# Altium footprint library SODFL3718X102N.PcbLib: 1 footprints
Each footprint in its own frame and in the unit in brackets; x right, y up, seen from the top. Pads: shape width x height; smd on the part's side, far side on the other; paste and mask are expansions set on the pad; w line width, h text height; cw(c..) or ccw(c..) is an arc to the next point about the centre after c.
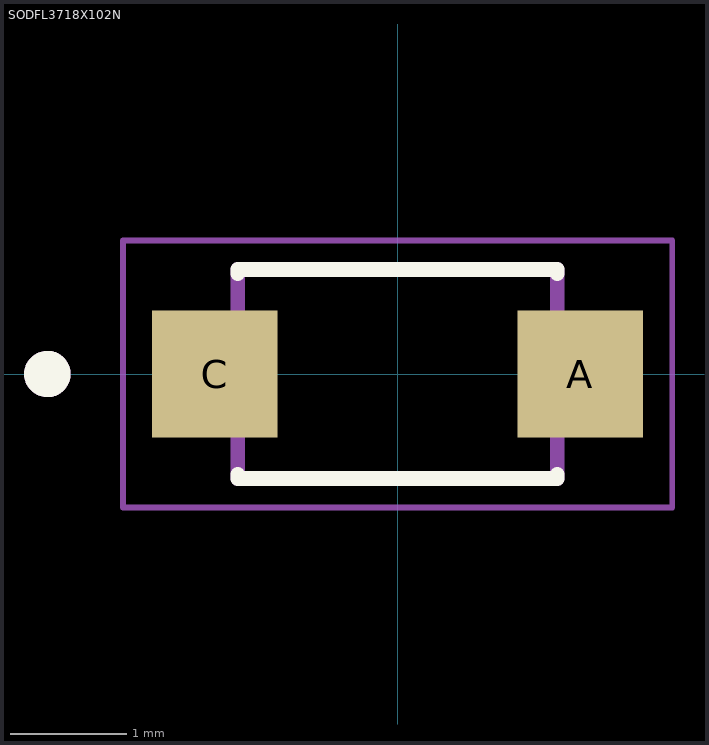
[diagram p0: the footprint, top view; thin cyan lines are the x and y axes]

## SODFL3718X102N [mm]
pads (2):
  rect 1.08x1.09 smd: A(1.575,0) C(-1.575,0)
Top Overlay:
  circle w0.2: c-3.015,0 r0.1
  lines w0.127: -1.375,-0.865 -1.375,-0.9 1.375,-0.9 1.375,-0.865 ; -1.375,0.865 -1.375,0.9 1.375,0.9 1.375,0.865
Mechanical 13:
  circle w0.2: c-3.015,0 r0.1
  lines w0.127: -1.375,-0.9 -1.375,0.9 1.375,0.9 1.375,-0.9 -1.375,-0.9
Mechanical 15:
  lines w0.05: -2.365,-1.15 -2.365,1.15 2.365,1.15 2.365,-1.15 -2.365,-1.15
3D body "step_temp.STEP": height 1.02, standoff 0, extent -1.85,-0.9 1.85,0.9